# Altium schematic symbol library CRGP2512F1M0.SchLib: 1 symbol
Pins are listed as number, name and electrical type; pins without a type are passive.

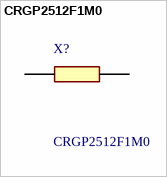
[diagram p0: symbol CRGP2512F1M0]

## CRGP2512F1M0
designator X?
1M 2512 Thick Film Resistor +/-1% 2W CRGP2512F1M0; Manufacturer_Name: TE Connectivity; Geometry.Height: 0.65mm; Mouser Part Number: 279-CRGP2512F1M0; Mouser Price/Stock: https://www.mouser.co.uk/ProductDetail/TE-Connectivity-Holsworthy/CRGP2512F1M0?qs=wUXugUrL1qwpbWEKgYeyog%3D%3D; Manufacturer_Part_Number: CRGP2512F1M0; Datasheet Link: https://www.te.com/commerce/DocumentDelivery/DDEController?Action=srchrtrv&DocNm=9-1773463-9&DocType=DS&DocLang=English
footprint RESC6432X65N
pins: 1, 2